# Altium integrated library Lattice ECP FPGA.IntLib: 182 symbols (part 2 of 2)
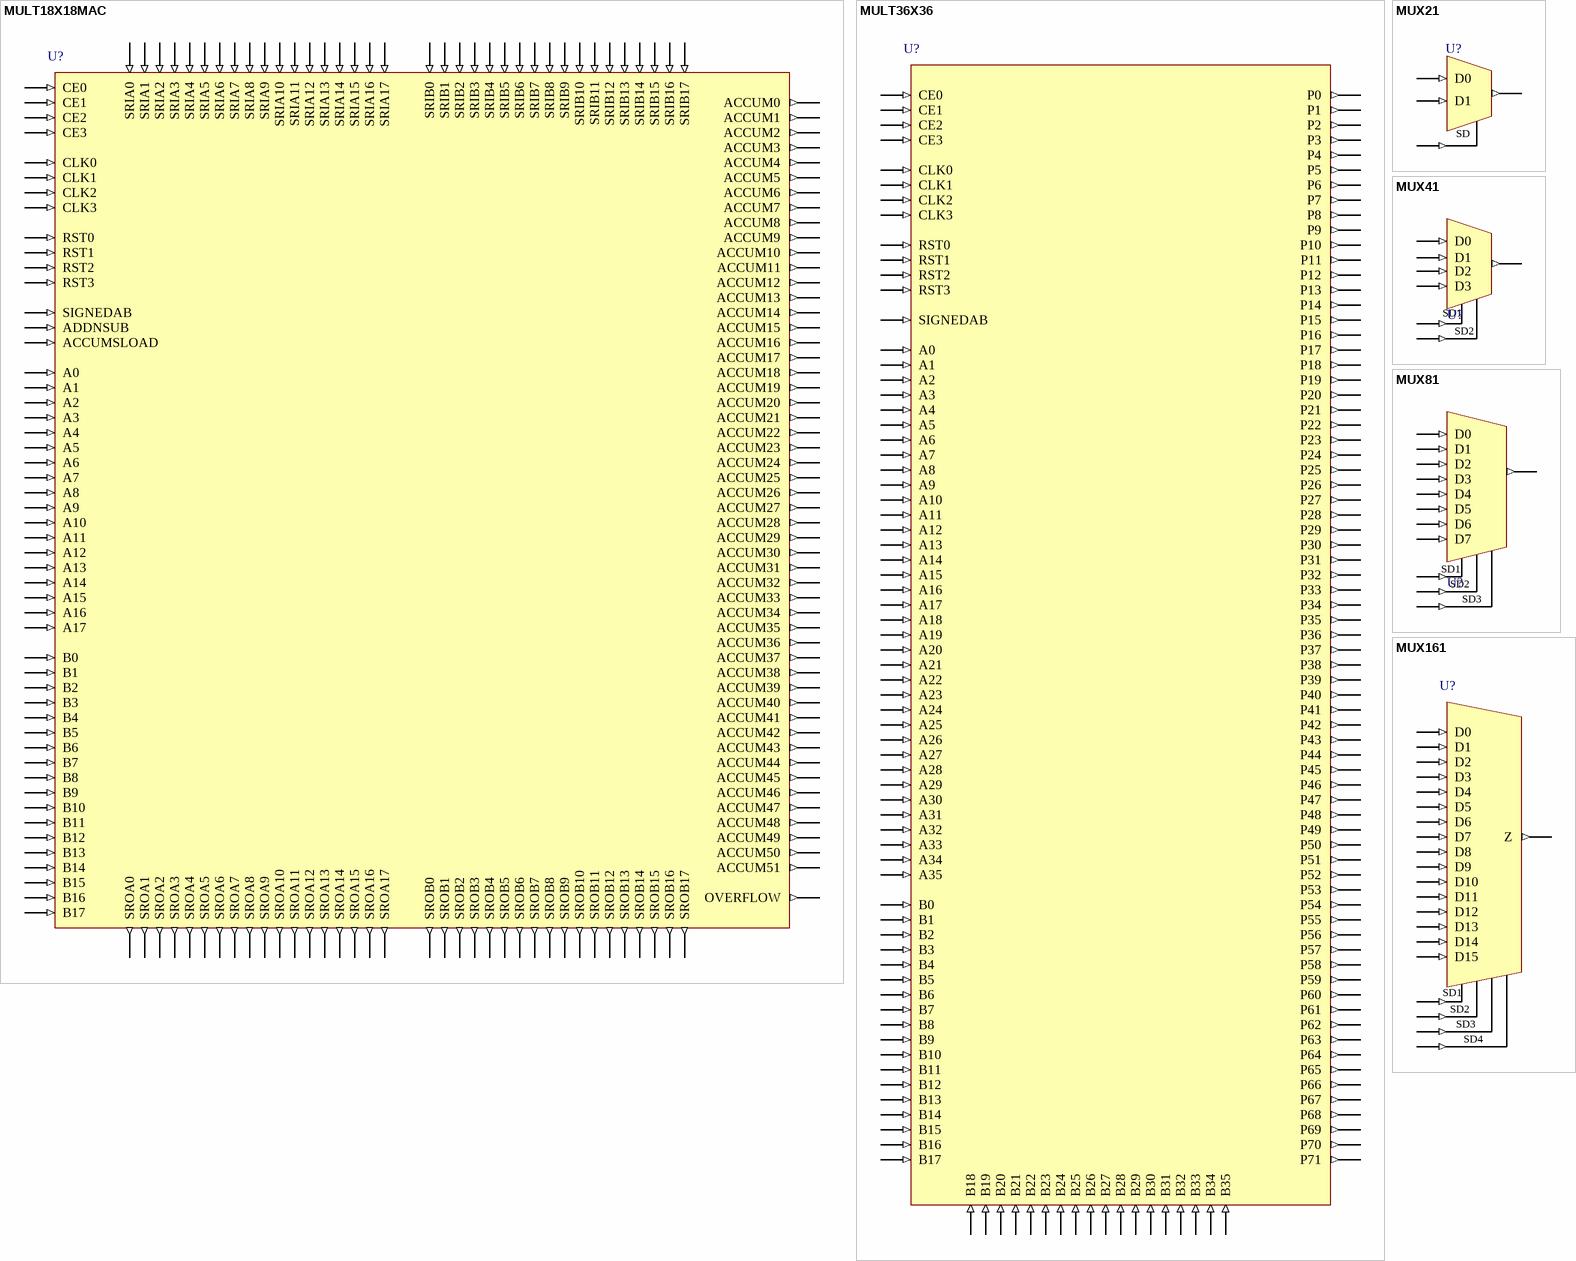
[diagram p10: symbols MULT18X18MAC to MUX161]

## MUX81
designator U?
8 to 1 Mux; FPGAVendor: Lattice; Published: 15-Jun-2005; Publisher: Altium Limited; HelpURL: http://www.latticesemi.com/lit/docs/manuals/library.pdf
pins: D0 (in), D1 (in), D2 (in), D3 (in), D4 (in), D5 (in), D6 (in), D7 (in), SD1 (in), SD2 (in), SD3 (in), Z (out)

## MUX161
designator U?
16 to 1 Mux in PFU; FPGAVendor: Lattice; Published: 15-Jun-2005; Publisher: Altium Limited; HelpURL: http://www.latticesemi.com/lit/docs/manuals/library.pdf
pins: D0 (in), D1 (in), D2 (in), D3 (in), D4 (in), D5 (in), D6 (in), D7 (in), D8 (in), D9 (in), D10 (in), D11 (in), D12 (in), D13 (in), D14 (in), D15 (in), SD1 (in), SD2 (in), SD3 (in), SD4 (in), Z (out)

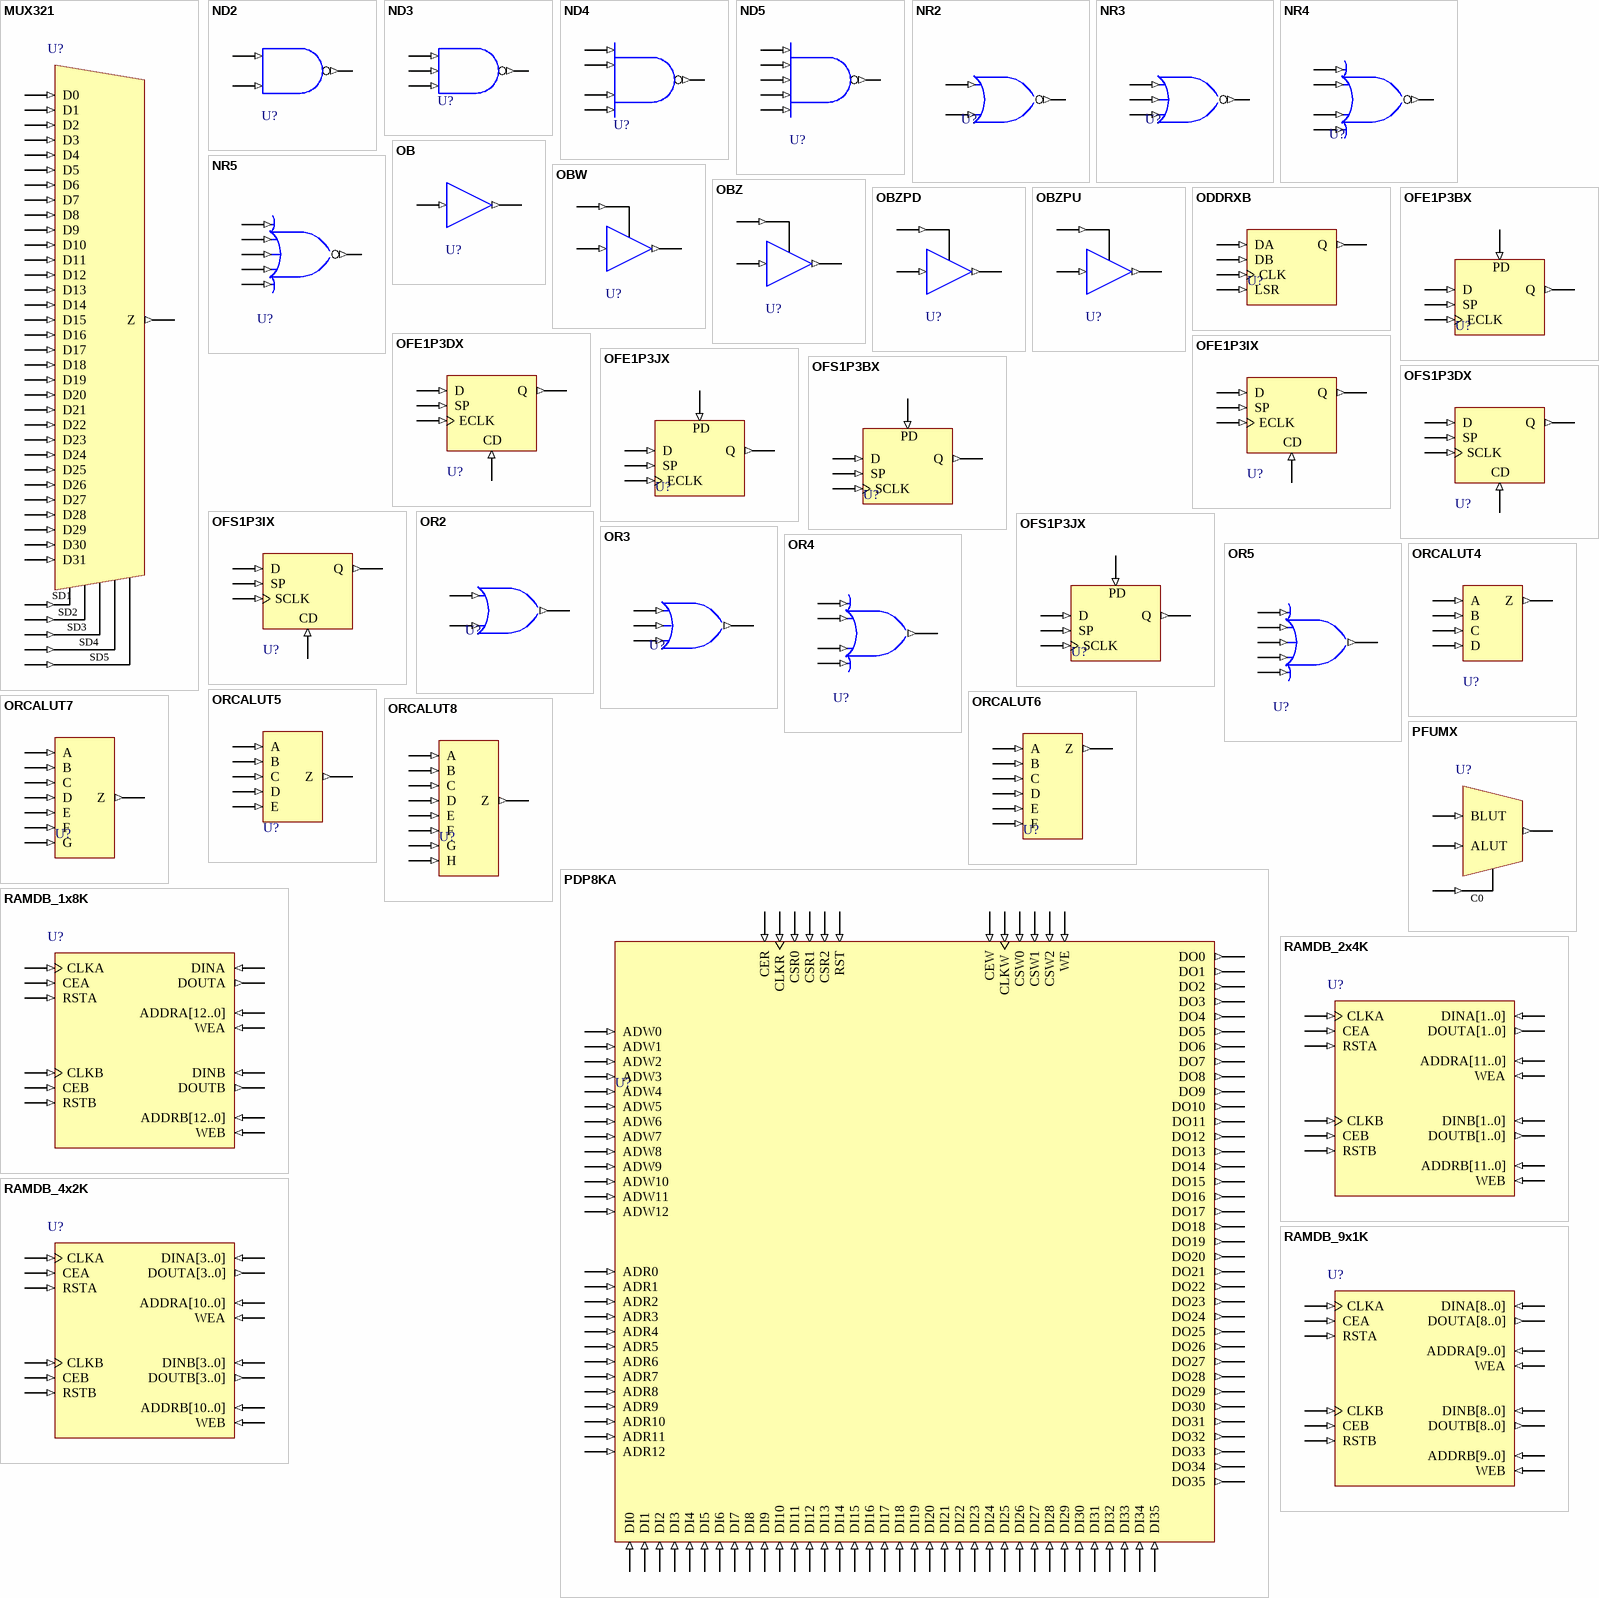
[diagram p8: symbols MUX321 to RAMDB_9x1K]

## MUX321
designator U?
32 to 1 Mux; FPGAVendor: Lattice; Published: 15-Jun-2005; Publisher: Altium Limited; HelpURL: http://www.latticesemi.com/lit/docs/manuals/library.pdf
pins: D0 (in), D1 (in), D2 (in), D3 (in), D4 (in), D5 (in), D6 (in), D7 (in), D8 (in), D9 (in), D10 (in), D11 (in), D12 (in), D13 (in), D14 (in), D15 (in), D16 (in), D17 (in), D18 (in), D19 (in), D20 (in), D21 (in), D22 (in), D23 (in), D24 (in), D25 (in), D26 (in), D27 (in), D28 (in), D29 (in), D30 (in), D31 (in), SD1 (in), SD2 (in), SD3 (in), SD4 (in), SD5 (in), Z (out)

## ND2
designator U?
2 Input NAND Gate; FPGAVendor: Lattice; Published: 15-Jun-2005; Publisher: Altium Limited; HelpURL: http://www.latticesemi.com/lit/docs/manuals/library.pdf
pins: A (in), B (in), Z (out)

## ND3
designator U?
3 Input NAND Gate; FPGAVendor: Lattice; Published: 15-Jun-2005; Publisher: Altium Limited; HelpURL: http://www.latticesemi.com/lit/docs/manuals/library.pdf
pins: A (in), B (in), C (in), Z (out)

## ND4
designator U?
4 Input NAND Gate; FPGAVendor: Lattice; Published: 15-Jun-2005; Publisher: Altium Limited; HelpURL: http://www.latticesemi.com/lit/docs/manuals/library.pdf
pins: A (in), B (in), C (in), D (in), Z (out)

## ND5
designator U?
5 Input NAND Gate; FPGAVendor: Lattice; Published: 15-Jun-2005; Publisher: Altium Limited; HelpURL: http://www.latticesemi.com/lit/docs/manuals/library.pdf
pins: A (in), B (in), C (in), D (in), E (in), Z (out)

## NR2
designator U?
2 Input NOR Gate; FPGAVendor: Lattice; Published: 15-Jun-2005; Publisher: Altium Limited; HelpURL: http://www.latticesemi.com/lit/docs/manuals/library.pdf
pins: A (in), B (in), Z (out)

## NR3
designator U?
3 Input NOR Gate; FPGAVendor: Lattice; Published: 15-Jun-2005; Publisher: Altium Limited; HelpURL: http://www.latticesemi.com/lit/docs/manuals/library.pdf
pins: A (in), B (in), C (in), Z (out)

## NR4
designator U?
4 Input NOR Gate; FPGAVendor: Lattice; Published: 15-Jun-2005; Publisher: Altium Limited; HelpURL: http://www.latticesemi.com/lit/docs/manuals/library.pdf
pins: A (in), B (in), C (in), D (in), Z (out)

## NR5
designator U?
5 Input NOR Gate; FPGAVendor: Lattice; Published: 15-Jun-2005; Publisher: Altium Limited; HelpURL: http://www.latticesemi.com/lit/docs/manuals/library.pdf
pins: A (in), B (in), C (in), D (in), E (in), Z (out)

## OB
designator U?
Output Buffer; FPGAVendor: Lattice; Published: 15-Jun-2005; Publisher: Altium Limited; HelpURL: http://www.latticesemi.com/lit/docs/manuals/library.pdf
pins: I (in), O (out)

## OBW
designator U?
6mA Sink 3mA Source Sinklim Output Buffer with Tristate; FPGAVendor: Lattice; Published: 15-Jun-2005; Publisher: Altium Limited; HelpURL: http://www.latticesemi.com/lit/docs/manuals/library.pdf
pins: I (in), O (out), T (in)

## OBZ
designator U?
6mA Sink 3mA Source Sinklim Output Buffer; FPGAVendor: Lattice; Published: 15-Jun-2005; Publisher: Altium Limited; HelpURL: http://www.latticesemi.com/lit/docs/manuals/library.pdf
pins: I (in), O (out), T (in)

## OBZPD
designator U?
12mA Sink 6mA Source Slewlim Output Buffer; FPGAVendor: Lattice; Published: 15-Jun-2005; Publisher: Altium Limited; HelpURL: http://www.latticesemi.com/lit/docs/manuals/library.pdf
pins: I (in), O (out), T (in)

## OBZPU
designator U?
12mA Sink 6mA Source Fast Output Buffer; FPGAVendor: Lattice; Published: 15-Jun-2005; Publisher: Altium Limited; HelpURL: http://www.latticesemi.com/lit/docs/manuals/library.pdf
pins: I (in), O (out), T (in)

## ODDRXB
designator U?
ODDR Output Cell; FPGAVendor: Lattice; Published: 15-Jun-2005; Publisher: Altium Limited; HelpURL: http://www.latticesemi.com/lit/docs/manuals/library.pdf
pins: CLK (in), DA (in), DB (in), LSR (in), Q (out)

## OFE1P3BX
designator U?
Positive Edge Triggered D Flip-Flop with Positive Level Enable, Positive Level Asynchronous Preset, and Express Clock (used in output PIC area only); FPGAVendor: Lattice; Published: 15-Jun-2005; Publisher: Altium Limited; HelpURL: http://www.latticesemi.com/lit/docs/manuals/library.pdf
pins: D (in), ECLK (in), PD (in), Q (out), SP (in)

## OFE1P3DX
designator U?
Positive Edge Triggered D Flip-Flop with Positive Level Enable, Positive Level Asynchronous Clear, and Express Clock (used in output PIC area only); FPGAVendor: Lattice; Published: 15-Jun-2005; Publisher: Altium Limited; HelpURL: http://www.latticesemi.com/lit/docs/manuals/library.pdf
pins: CD (in), D (in), ECLK (in), Q (out), SP (in)

## OFE1P3IX
designator U?
Positive Edge Triggered D Flip-Flop with Positive Level Synchronous Clear, Positive Level Enable (Clear overrides Enable), and Express Clock (used in output PIC area only); FPGAVendor: Lattice; Published: 15-Jun-2005; Publisher: Altium Limited; HelpURL: http://www.latticesemi.com/lit/docs/manuals/library.pdf
pins: CD (in), D (in), ECLK (in), Q (out), SP (in)

## OFE1P3JX
designator U?
Positive Edge Triggered D Flip-Flop with Positive Level Synchronous Preset, Positive Level Enable (Preset overrides Enable), and Express Clock (used in output PIC area only); FPGAVendor: Lattice; Published: 15-Jun-2005; Publisher: Altium Limited; HelpURL: http://www.latticesemi.com/lit/docs/manuals/library.pdf
pins: D (in), ECLK (in), PD (in), Q (out), SP (in)

## OFS1P3BX
designator U?
Positive Edge Triggered D Flip-Flop with Positive Level Enable, Positive Level Asynchronous Preset, and System Clock (used in output PIC area only); FPGAVendor: Lattice; Published: 15-Jun-2005; Publisher: Altium Limited; HelpURL: http://www.latticesemi.com/lit/docs/manuals/library.pdf
pins: D (in), PD (in), Q (out), SCLK (in), SP (in)

## OFS1P3DX
designator U?
Positive Edge Triggered D Flip-Flop with Positive Level Enable, Positive Level Asynchronous Clear, and System Clock (used in output PIC area only); FPGAVendor: Lattice; Published: 15-Jun-2005; Publisher: Altium Limited; HelpURL: http://www.latticesemi.com/lit/docs/manuals/library.pdf
pins: CD (in), D (in), Q (out), SCLK (in), SP (in)

## OFS1P3IX
designator U?
Positive Edge Triggered D Flip-Flop with Positive Level Synchronous Clear, Positive Level Enable (Clear overrides Enable), and System Clock (used in output PIC area only); FPGAVendor: Lattice; Published: 15-Jun-2005; Publisher: Altium Limited; HelpURL: http://www.latticesemi.com/lit/docs/manuals/library.pdf
pins: CD (in), D (in), Q (out), SCLK (in), SP (in)

## OFS1P3JX
designator U?
Positive Edge Triggered D Flip-Flop with Positive Level Synchronous Preset, Positive Level Enable (Preset overrides Enable), and System Clock (used in output PIC area only); FPGAVendor: Lattice; Published: 15-Jun-2005; Publisher: Altium Limited; HelpURL: http://www.latticesemi.com/lit/docs/manuals/library.pdf
pins: D (in), PD (in), Q (out), SCLK (in), SP (in)

## OR2
designator U?
2 Input OR Gate; FPGAVendor: Lattice; Published: 15-Jun-2005; Publisher: Altium Limited; HelpURL: http://www.latticesemi.com/lit/docs/manuals/library.pdf
pins: A (in), B (in), Z (out)

## OR3
designator U?
3 Input OR Gate; FPGAVendor: Lattice; Published: 15-Jun-2005; Publisher: Altium Limited; HelpURL: http://www.latticesemi.com/lit/docs/manuals/library.pdf
pins: A (in), B (in), C (in), Z (out)

## OR4
designator U?
4 Input OR Gate; FPGAVendor: Lattice; Published: 15-Jun-2005; Publisher: Altium Limited; HelpURL: http://www.latticesemi.com/lit/docs/manuals/library.pdf
pins: A (in), B (in), C (in), D (in), Z (out)

## OR5
designator U?
5 Input OR Gate; FPGAVendor: Lattice; Published: 15-Jun-2005; Publisher: Altium Limited; HelpURL: http://www.latticesemi.com/lit/docs/manuals/library.pdf
pins: A (in), B (in), C (in), D (in), E (in), Z (out)

## ORCALUT4
designator U?
4-Input Look-up Table; FPGAVendor: Lattice; Published: 15-Jun-2005; Publisher: Altium Limited; HelpURL: http://www.latticesemi.com/lit/docs/manuals/library.pdf
pins: A (in), B (in), C (in), D (in), Z (out)

## ORCALUT5
designator U?
5-Input Look-up Table; FPGAVendor: Lattice; Published: 15-Jun-2005; Publisher: Altium Limited; HelpURL: http://www.latticesemi.com/lit/docs/manuals/library.pdf
pins: A (in), B (in), C (in), D (in), E (in), Z (out)

## ORCALUT6
designator U?
6-Input Look-up Table; FPGAVendor: Lattice; Published: 15-Jun-2005; Publisher: Altium Limited; HelpURL: http://www.latticesemi.com/lit/docs/manuals/library.pdf
pins: A (in), B (in), C (in), D (in), E (in), F (in), Z (out)

## ORCALUT7
designator U?
7-Input Look-up Table; FPGAVendor: Lattice; Published: 15-Jun-2005; Publisher: Altium Limited; HelpURL: http://www.latticesemi.com/lit/docs/manuals/library.pdf
pins: A (in), B (in), C (in), D (in), E (in), F (in), G (in), Z (out)

## ORCALUT8
designator U?
8-Input Look-up Table; FPGAVendor: Lattice; Published: 15-Jun-2005; Publisher: Altium Limited; HelpURL: http://www.latticesemi.com/lit/docs/manuals/library.pdf
pins: A (in), B (in), C (in), D (in), E (in), F (in), G (in), H (in), Z (out)

## PDP8KA
designator U?
8K Pseudo Dual Port Block RAM; FPGAVendor: Lattice; Published: 15-Jun-2005; Publisher: Altium Limited; HelpURL: http://www.latticesemi.com/lit/docs/manuals/library.pdf
pins: ADR0 (in), ADR1 (in), ADR2 (in), ADR3 (in), ADR4 (in), ADR5 (in), ADR6 (in), ADR7 (in), ADR8 (in), ADR9 (in), ADR10 (in), ADR11 (in), ADR12 (in), ADW0 (in), ADW1 (in), ADW2 (in), ADW3 (in), ADW4 (in), ADW5 (in), ADW6 (in), ADW7 (in), ADW8 (in), ADW9 (in), ADW10 (in), ADW11 (in), ADW12 (in), CER (in), CEW (in), CLKR (in), CLKW (in), CSR0 (in), CSR1 (in), CSR2 (in), CSW0 (in), CSW1 (in), CSW2 (in), DI0 (in), DI1 (in), DI2 (in), DI3 (in), DI4 (in), DI5 (in), DI6 (in), DI7 (in), DI8 (in), DI9 (in), DI10 (in), DI11 (in), DI12 (in), DI13 (in), DI14 (in), DI15 (in), DI16 (in), DI17 (in), DI18 (in), DI19 (in), DI20 (in), DI21 (in), DI22 (in), DI23 (in), DI24 (in), DI25 (in), DI26 (in), DI27 (in), DI28 (in), DI29 (in), DI30 (in), DI31 (in), DI32 (in), DI33 (in), DI34 (in), DI35 (in), DO0 (out), DO1 (out), DO2 (out), DO3 (out), DO4 (out), DO5 (out), DO6 (out), DO7 (out), DO8 (out), DO9 (out), DO10 (out), DO11 (out), DO12 (out), DO13 (out), DO14 (out), DO15 (out), DO16 (out), DO17 (out), DO18 (out), DO19 (out), DO20 (out), DO21 (out), DO22 (out), DO23 (out), DO24 (out), DO25 (out), DO26 (out), DO27 (out), DO28 (out), DO29 (out), DO30 (out), DO31 (out), DO32 (out), DO33 (out), DO34 (out), DO35 (out), RST (in), WE (in)

## PFUMX
designator U?
PFU Mux; FPGAVendor: Lattice; Published: 15-Jun-2005; Publisher: Altium Limited; HelpURL: http://www.latticesemi.com/lit/docs/manuals/library.pdf
pins: ALUT (in), BLUT (in), C0 (in), Z (out)

## RAMDB_1x8K
designator U?
EBR Based - True Dual Port RAM with memory size of 8Kx1; ArchiveName: GENERIC; Published: 10-Aug-2005; Publisher: Altium Limited; HelpURL: http://www.latticesemi.com/lit/docs/handbooks/ecp_ec_handbook.pdf
pins: ADDRA[12..0] (in), ADDRB[12..0] (in), CEA (in), CEB (in), CLKA (in), CLKB (in), DINA (in), DINB (in), DOUTA (out), DOUTB (out), RSTA (in), RSTB (in), WEA (in), WEB (in)

## RAMDB_2x4K
designator U?
EBR Based - True Dual Port RAM with memory size of 4Kx2; ArchiveName: GENERIC; Published: 10-Aug-2005; Publisher: Altium Limited; HelpURL: http://www.latticesemi.com/lit/docs/handbooks/ecp_ec_handbook.pdf
pins: ADDRA[11..0] (in), ADDRB[11..0] (in), CEA (in), CEB (in), CLKA (in), CLKB (in), DINA[1..0] (in), DINB[1..0] (in), DOUTA[1..0] (out), DOUTB[1..0] (out), RSTA (in), RSTB (in), WEA (in), WEB (in)

## RAMDB_4x2K
designator U?
EBR  Based -True Dual Port RAM with memory size of 2Kx4; ArchiveName: GENERIC; Published: 10-Aug-2005; Publisher: Altium Limited; HelpURL: http://www.latticesemi.com/lit/docs/handbooks/ecp_ec_handbook.pdf
pins: ADDRA[10..0] (in), ADDRB[10..0] (in), CEA (in), CEB (in), CLKA (in), CLKB (in), DINA[3..0] (in), DINB[3..0] (in), DOUTA[3..0] (out), DOUTB[3..0] (out), RSTA (in), RSTB (in), WEA (in), WEB (in)

## RAMDB_9x1K
designator U?
EBR  Based - True Dual Port RAM with memory size of 1Kx9; ArchiveName: GENERIC; Published: 10-Aug-2005; Publisher: Altium Limited; HelpURL: http://www.latticesemi.com/lit/docs/handbooks/ecp_ec_handbook.pdf
pins: ADDRA[9..0] (in), ADDRB[9..0] (in), CEA (in), CEB (in), CLKA (in), CLKB (in), DINA[8..0] (in), DINB[8..0] (in), DOUTA[8..0] (out), DOUTB[8..0] (out), RSTA (in), RSTB (in), WEA (in), WEB (in)

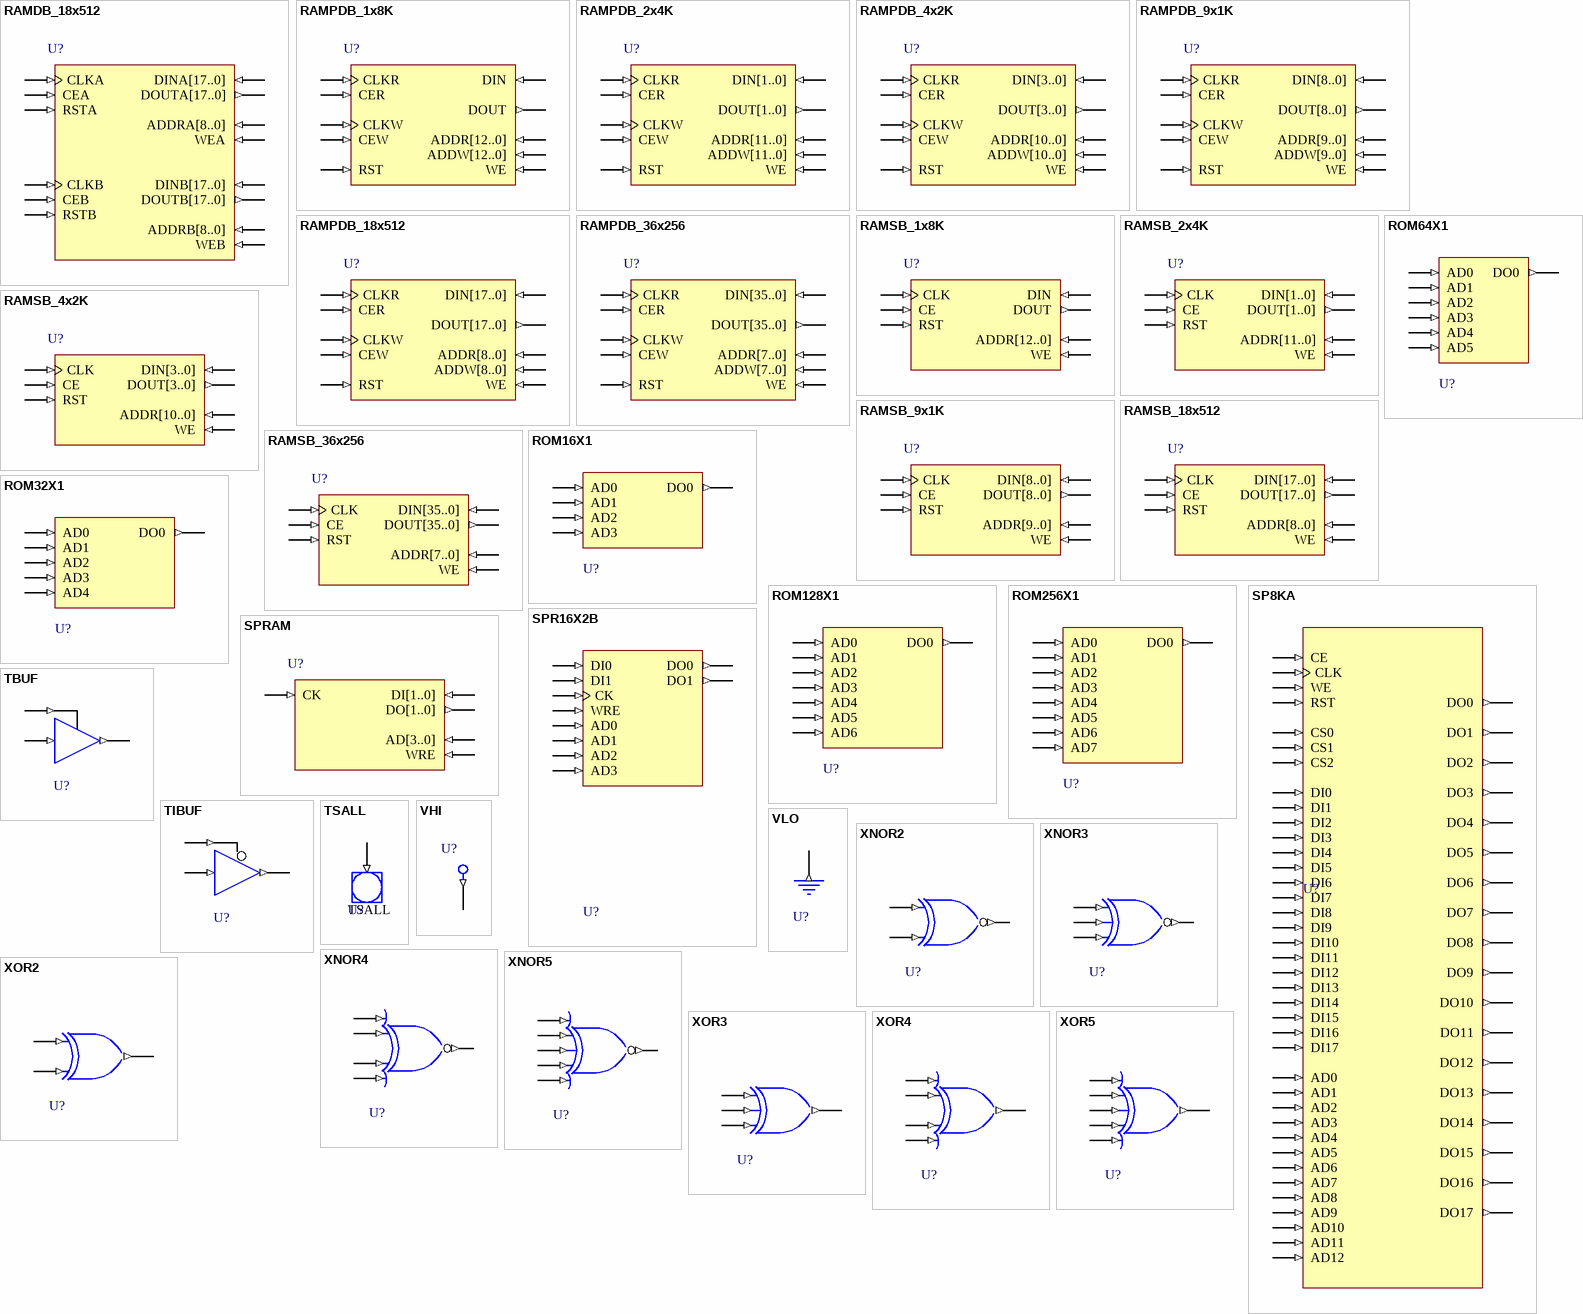
[diagram p9: symbols RAMDB_18x512 to XOR5]

## RAMDB_18x512
designator U?
EBR Based - True Dual Port RAM with memory size of 512x18; ArchiveName: GENERIC; Published: 10-Aug-2005; Publisher: Altium Limited; HelpURL: http://www.latticesemi.com/lit/docs/handbooks/ecp_ec_handbook.pdf
pins: ADDRA[8..0] (in), ADDRB[8..0] (in), CEA (in), CEB (in), CLKA (in), CLKB (in), DINA[17..0] (in), DINB[17..0] (in), DOUTA[17..0] (out), DOUTB[17..0] (out), RSTA (in), RSTB (in), WEA (in), WEB (in)

## RAMPDB_1x8K
designator U?
EBR Based - Pseudo Dual Port RAM with memory size of 8Kx1; ArchiveName: GENERIC; Published: 10-Aug-2005; Publisher: Altium Limited; HelpURL: http://www.latticesemi.com/lit/docs/handbooks/ecp_ec_handbook.pdf
pins: ADDR[12..0] (in), ADDW[12..0] (in), CER (in), CEW (in), CLKR (in), CLKW (in), DIN (in), DOUT (out), RST (in), WE (in)

## RAMPDB_2x4K
designator U?
EBR Based - Pseudo Dual Port RAM with memory size of 4Kx2; ArchiveName: GENERIC; Published: 10-Aug-2005; Publisher: Altium Limited; HelpURL: http://www.latticesemi.com/lit/docs/handbooks/ecp_ec_handbook.pdf
pins: ADDR[11..0] (in), ADDW[11..0] (in), CER (in), CEW (in), CLKR (in), CLKW (in), DIN[1..0] (in), DOUT[1..0] (out), RST (in), WE (in)

## RAMPDB_4x2K
designator U?
EBR Based - Pseudo Dual Port RAM with memory size of 2Kx4; ArchiveName: GENERIC; Published: 10-Aug-2005; Publisher: Altium Limited; HelpURL: http://www.latticesemi.com/lit/docs/handbooks/ecp_ec_handbook.pdf
pins: ADDR[10..0] (in), ADDW[10..0] (in), CER (in), CEW (in), CLKR (in), CLKW (in), DIN[3..0] (in), DOUT[3..0] (out), RST (in), WE (in)

## RAMPDB_9x1K
designator U?
EBR Based - Pseudo Dual Port RAM with memory size of 1Kx9; ArchiveName: GENERIC; Published: 10-Aug-2005; Publisher: Altium Limited; HelpURL: http://www.latticesemi.com/lit/docs/handbooks/ecp_ec_handbook.pdf
pins: ADDR[9..0] (in), ADDW[9..0] (in), CER (in), CEW (in), CLKR (in), CLKW (in), DIN[8..0] (in), DOUT[8..0] (out), RST (in), WE (in)

## RAMPDB_18x512
designator U?
EBR Based - Pseudo Dual Port RAM with memory size of 512x18; ArchiveName: GENERIC; Published: 10-Aug-2005; Publisher: Altium Limited; HelpURL: http://www.latticesemi.com/lit/docs/handbooks/ecp_ec_handbook.pdf
pins: ADDR[8..0] (in), ADDW[8..0] (in), CER (in), CEW (in), CLKR (in), CLKW (in), DIN[17..0] (in), DOUT[17..0] (out), RST (in), WE (in)

## RAMPDB_36x256
designator U?
EBR Based - Pseudo Dual Port RAM with memory size of 256x36; ArchiveName: GENERIC; Published: 10-Aug-2005; Publisher: Altium Limited; HelpURL: http://www.latticesemi.com/lit/docs/handbooks/ecp_ec_handbook.pdf
pins: ADDR[7..0] (in), ADDW[7..0] (in), CER (in), CEW (in), CLKR (in), CLKW (in), DIN[35..0] (in), DOUT[35..0] (out), RST (in), WE (in)

## RAMSB_1x8K
designator U?
EBR Based - Single Port RAM with memory size of 8Kx1; ArchiveName: GENERIC; Published: 10-Aug-2005; Publisher: Altium Limited; HelpURL: http://www.latticesemi.com/lit/docs/handbooks/ecp_ec_handbook.pdf
pins: ADDR[12..0] (in), CE (in), CLK (in), DIN (in), DOUT (out), RST (in), WE (in)

## RAMSB_2x4K
designator U?
EBR Based - Single Port RAM with memory size of 4Kx2; ArchiveName: GENERIC; Published: 10-Aug-2005; Publisher: Altium Limited; HelpURL: http://www.latticesemi.com/lit/docs/handbooks/ecp_ec_handbook.pdf
pins: ADDR[11..0] (in), CE (in), CLK (in), DIN[1..0] (in), DOUT[1..0] (out), RST (in), WE (in)

## RAMSB_4x2K
designator U?
EBR Based - Single Port RAM with memory size of 2Kx4; ArchiveName: GENERIC; Published: 10-Aug-2005; Publisher: Altium Limited; HelpURL: http://www.latticesemi.com/lit/docs/handbooks/ecp_ec_handbook.pdf
pins: ADDR[10..0] (in), CE (in), CLK (in), DIN[3..0] (in), DOUT[3..0] (out), RST (in), WE (in)

## RAMSB_9x1K
designator U?
EBR Based - Single Port RAM with memory size of 1Kx9; ArchiveName: GENERIC; Published: 10-Aug-2005; Publisher: Altium Limited; HelpURL: http://www.latticesemi.com/lit/docs/handbooks/ecp_ec_handbook.pdf
pins: ADDR[9..0] (in), CE (in), CLK (in), DIN[8..0] (in), DOUT[8..0] (out), RST (in), WE (in)

## RAMSB_18x512
designator U?
EBR Based - Single Port RAM with memory size of 512x18; ArchiveName: GENERIC; Published: 10-Aug-2005; Publisher: Altium Limited; HelpURL: http://www.latticesemi.com/lit/docs/handbooks/ecp_ec_handbook.pdf
pins: ADDR[8..0] (in), CE (in), CLK (in), DIN[17..0] (in), DOUT[17..0] (out), RST (in), WE (in)

## RAMSB_36x256
designator U?
EBR Based - Single Port RAM with memory size of 256x36; ArchiveName: GENERIC; Published: 10-Aug-2005; Publisher: Altium Limited; HelpURL: http://www.latticesemi.com/lit/docs/handbooks/ecp_ec_handbook.pdf
pins: ADDR[7..0] (in), CE (in), CLK (in), DIN[35..0] (in), DOUT[35..0] (out), RST (in), WE (in)

## ROM16X1
designator U?
16 Word by 1 Bit Read-Only Memory; FPGAVendor: Lattice; Published: 15-Jun-2005; Publisher: Altium Limited; HelpURL: http://www.latticesemi.com/lit/docs/manuals/library.pdf
pins: AD0 (in), AD1 (in), AD2 (in), AD3 (in), DO0 (out)

## ROM32X1
designator U?
32 Word by 1 Bit Read-Only Memory; FPGAVendor: Lattice; Published: 15-Jun-2005; Publisher: Altium Limited; HelpURL: http://www.latticesemi.com/lit/docs/manuals/library.pdf
pins: AD0 (in), AD1 (in), AD2 (in), AD3 (in), AD4 (in), DO0 (out)

## ROM64X1
designator U?
64 Word by 1 Bit Read-Only Memory; FPGAVendor: Lattice; Published: 15-Jun-2005; Publisher: Altium Limited; HelpURL: http://www.latticesemi.com/lit/docs/manuals/library.pdf
pins: AD0 (in), AD1 (in), AD2 (in), AD3 (in), AD4 (in), AD5 (in), DO0 (out)

## ROM128X1
designator U?
128 Word by 1 Bit Read-Only Memory; FPGAVendor: Lattice; Published: 15-Jun-2005; Publisher: Altium Limited; HelpURL: http://www.latticesemi.com/lit/docs/manuals/library.pdf
pins: AD0 (in), AD1 (in), AD2 (in), AD3 (in), AD4 (in), AD5 (in), AD6 (in), DO0 (out)

## ROM256X1
designator U?
256 Word by 1 Bit Read-Only Memory; FPGAVendor: Lattice; Published: 15-Jun-2005; Publisher: Altium Limited; HelpURL: http://www.latticesemi.com/lit/docs/manuals/library.pdf
pins: AD0 (in), AD1 (in), AD2 (in), AD3 (in), AD4 (in), AD5 (in), AD6 (in), AD7 (in), DO0 (out)

## SP8KA
designator U?
8K Single Port Block RAM; FPGAVendor: Lattice; Published: 15-Jun-2005; Publisher: Altium Limited; HelpURL: http://www.latticesemi.com/lit/docs/manuals/library.pdf
pins: AD0 (in), AD1 (in), AD2 (in), AD3 (in), AD4 (in), AD5 (in), AD6 (in), AD7 (in), AD8 (in), AD9 (in), AD10 (in), AD11 (in), AD12 (in), CE (in), CLK (in), CS0 (in), CS1 (in), CS2 (in), DI0 (in), DI1 (in), DI2 (in), DI3 (in), DI4 (in), DI5 (in), DI6 (in), DI7 (in), DI8 (in), DI9 (in), DI10 (in), DI11 (in), DI12 (in), DI13 (in), DI14 (in), DI15 (in), DI16 (in), DI17 (in), DO0 (out), DO1 (out), DO2 (out), DO3 (out), DO4 (out), DO5 (out), DO6 (out), DO7 (out), DO8 (out), DO9 (out), DO10 (out), DO11 (out), DO12 (out), DO13 (out), DO14 (out), DO15 (out), DO16 (out), DO17 (out), RST (in), WE (in)

## SPR16X2B
designator U?
16 Word by 2 Single Port RAM (within PFU); FPGAVendor: Lattice; Published: 15-Jun-2005; Publisher: Altium Limited; HelpURL: http://www.latticesemi.com/lit/docs/manuals/library.pdf
pins: AD0 (in), AD1 (in), AD2 (in), AD3 (in), CK (in), DI0 (in), DI1 (in), DO0 (out), DO1 (out), WRE (in)

## SPRAM
designator U?
Distributed Single Port RAM; FPGAVendor: Lattice; Published: 10-Aug-2005; Publisher: Altium Limited; HelpURL: http://www.latticesemi.com/lit/docs/handbooks/ecp_ec_handbook.pdf
pins: AD[3..0] (in), CK (in), DI[1..0] (in), DO[1..0] (out), WRE (in)

## TBUF
designator U?
Internal Buffer with Tristate (used in SLIC area only); FPGAVendor: Lattice; Published: 15-Jun-2005; Publisher: Altium Limited; HelpURL: http://www.latticesemi.com/lit/docs/manuals/library.pdf
pins: I (in), O (out), T (in)

## TIBUF
designator U?
Internal Buffer with Inverted Tristate (used in SLIC area only); FPGAVendor: Lattice; Published: 15-Jun-2005; Publisher: Altium Limited; HelpURL: http://www.latticesemi.com/lit/docs/manuals/library.pdf
pins: I (in), O (out), T (in)

## TSALL
designator U?
Global Tristate Interface; FPGAVendor: Lattice; Published: 15-Jun-2005; Publisher: Altium Limited; HelpURL: http://www.latticesemi.com/lit/docs/manuals/library.pdf
pins: TSALL (in)

## VHI
designator U?
Logic High Generator; FPGAVendor: Lattice; Published: 15-Jun-2005; Publisher: Altium Limited; HelpURL: http://www.latticesemi.com/lit/docs/manuals/library.pdf
pins: Z (out)

## VLO
designator U?
Logic Low Generator; FPGAVendor: Lattice; Published: 15-Jun-2005; Publisher: Altium Limited; HelpURL: http://www.latticesemi.com/lit/docs/manuals/library.pdf
pins: Z (out)

## XNOR2
designator U?
2 Input Exclusive NOR Gate; FPGAVendor: Lattice; Published: 15-Jun-2005; Publisher: Altium Limited; HelpURL: http://www.latticesemi.com/lit/docs/manuals/library.pdf
pins: A (in), B (in), Z (out)

## XNOR3
designator U?
3 Input Exclusive NOR Gate; FPGAVendor: Lattice; Published: 15-Jun-2005; Publisher: Altium Limited; HelpURL: http://www.latticesemi.com/lit/docs/manuals/library.pdf
pins: A (in), B (in), C (in), Z (out)

## XNOR4
designator U?
4 Input Exclusive NOR Gate; FPGAVendor: Lattice; Published: 15-Jun-2005; Publisher: Altium Limited; HelpURL: http://www.latticesemi.com/lit/docs/manuals/library.pdf
pins: A (in), B (in), C (in), D (in), Z (out)

## XNOR5
designator U?
5 Input Exclusive NOR Gate; FPGAVendor: Lattice; Published: 15-Jun-2005; Publisher: Altium Limited; HelpURL: http://www.latticesemi.com/lit/docs/manuals/library.pdf
pins: A (in), B (in), C (in), D (in), E (in), Z (out)

## XOR2
designator U?
2 Input Exclusive OR Gate; FPGAVendor: Lattice; Published: 15-Jun-2005; Publisher: Altium Limited; HelpURL: http://www.latticesemi.com/lit/docs/manuals/library.pdf
pins: A (in), B (in), Z (out)

## XOR3
designator U?
3 Input Exclusive OR Gate; FPGAVendor: Lattice; Published: 15-Jun-2005; Publisher: Altium Limited; HelpURL: http://www.latticesemi.com/lit/docs/manuals/library.pdf
pins: A (in), B (in), C (in), Z (out)

## XOR4
designator U?
4 Input Exclusive OR Gate; FPGAVendor: Lattice; Published: 15-Jun-2005; Publisher: Altium Limited; HelpURL: http://www.latticesemi.com/lit/docs/manuals/library.pdf
pins: A (in), B (in), C (in), D (in), Z (out)

## XOR5
designator U?
5 Input Exclusive OR Gate; FPGAVendor: Lattice; Published: 15-Jun-2005; Publisher: Altium Limited; HelpURL: http://www.latticesemi.com/lit/docs/manuals/library.pdf
pins: A (in), B (in), C (in), D (in), E (in), Z (out)